# EAGLE library part LTC1955 (library PCB_KioskMB_r3.3-05)
Dual Smart Card interface with Serial control
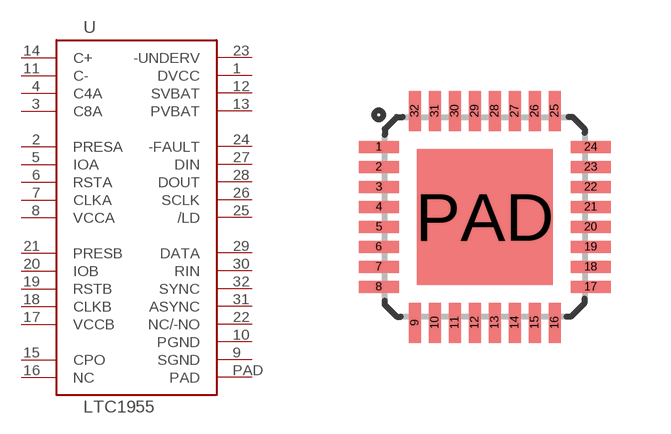
[diagram p14: symbol with the pads of LFCSP_5X5_032; footprint LFCSP_5X5_032]

Designator prefix U

## LTC1955  [LFCSP_5X5_032]
1  DVCC
2  PRESA
3  C8A
4  C4A
5  IOA
6  RSTA
7  CLKA
8  VCCA
9  SGND
10  PGND
11  C-
12  SVBAT
13  PVBAT
14  C+
15  CPO
16  NC
17  VCCB
18  CLKB
19  RSTB
20  IOB
21  PRESB
22  NC/-NO
23  -UNDERV
24  -FAULT
25  /LD
26  SCLK
27  DIN
28  DOUT
29  DATA
30  RIN
31  ASYNC
32  SYNC
PAD  PAD

## Footprint LFCSP_5X5_032 (pad centres in mm)
Chip Scale package 32 pin 5x5 LTC UH
smd 1 x 0.3: 1 -2.65,1.75; 2 -2.65,1.25; 3 -2.65,0.75; 4 -2.65,0.25; 5 -2.65,-0.25; 6 -2.65,-0.75; 7 -2.65,-1.25; 8 -2.65,-1.75; 17 2.65,-1.75; 18 2.65,-1.25; 19 2.65,-0.75; 20 2.65,-0.25; 21 2.65,0.25; 22 2.65,0.75; 23 2.65,1.25; 24 2.65,1.75
smd 0.3 x 1: 9 -1.75,-2.65; 10 -1.25,-2.65; 11 -0.75,-2.65; 12 -0.25,-2.65; 13 0.25,-2.65; 14 0.75,-2.65; 15 1.25,-2.65; 16 1.75,-2.65; 25 1.75,2.65; 26 1.25,2.65; 27 0.75,2.65; 28 0.25,2.65; 29 -0.25,2.65; 30 -0.75,2.65; 31 -1.25,2.65; 32 -1.75,2.65
smd 3.4 x 3.4: PAD 0,0